# EAGLE library part LT1991 (library linear-technology)
Precision 100μA Gain Selectable Amplifier Data sheet <http://cds.linear.com/docs/en/datasheet/1991fh.pdf>
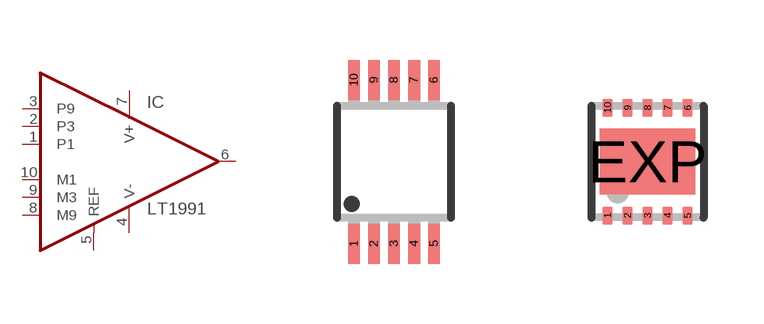
[diagram p21: symbol with the pads of MSOP10; footprints MSOP10, DFN10-3X3]

Designator prefix IC

## LT1991MS  [MSOP10]
1  P1  in
2  P3  in
3  P9  in
4  V-  pwr
5  REF  in
6  OUT  out
7  V+  pwr
8  M9  in
9  M3  in
10  M1  in

## LT1991DD  [DFN10-3X3]
1  P1  in
2  P3  in
3  P9  in
4  V-  pwr
5  REF  in
6  OUT  out
7  V+  pwr
8  M9  in
9  M3  in
10  M1  in
EXP  V-  pwr

## Footprint MSOP10 (pad centres in mm)
10 Lead Platic MSOP Source: http://www.linear.com .. LT1996
smd 0.3 x 1: 1 -1,-2.05; 2 -0.5,-2.05; 3 0,-2.05; 4 0.5,-2.05; 5 1,-2.05; 6 1,2.05; 7 0.5,2.05; 8 0,2.05; 9 -0.5,2.05; 10 -1,2.05

## Footprint DFN10-3X3 (pad centres in mm)
DD Package 10-Lead Plastic DFN (3mm × 3mm) (Reference LTC DWG # 05-08-1669) Source: http://www.linear.com .. 4062fa.pdf
smd 0.25 x 0.45: 1 -1,-1.35; 2 -0.5,-1.35; 3 0,-1.35; 4 0.5,-1.35; 5 1,-1.35; 6 1,1.35; 7 0.5,1.35; 8 0,1.35; 9 -0.5,1.35; 10 -1,1.35
smd 2.38 x 1.65: EXP 0,0